# Altium footprint library BOURNS_FWxxA.PcbLib: 1 footprints
Each footprint in its own frame and in the unit in brackets; x right, y up, seen from the top. Pads: shape width x height; smd on the part's side, far side on the other; paste and mask are expansions set on the pad; w line width, h text height; cw(c..) or ccw(c..) is an arc to the next point about the centre after c.
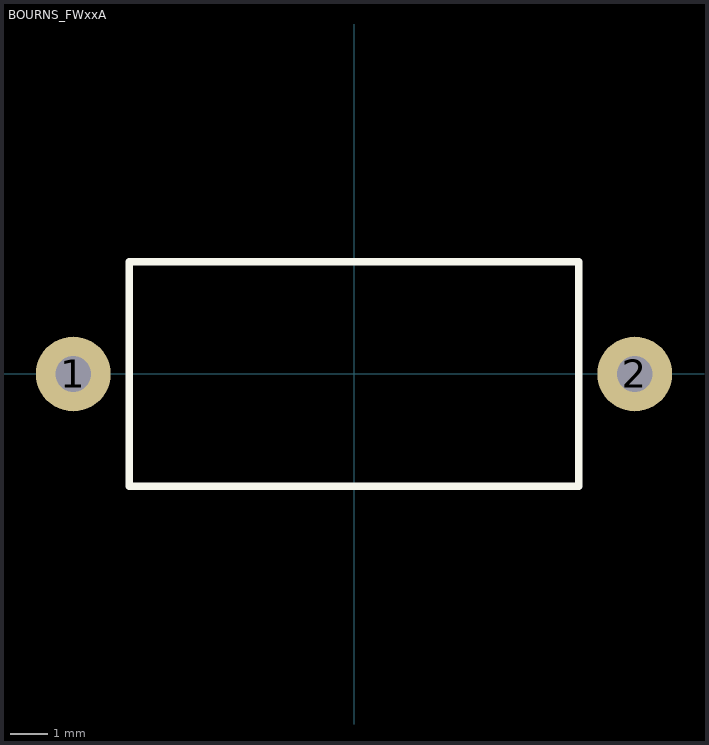
[diagram p0: the footprint, top view; thin cyan lines are the x and y axes]

## BOURNS_FWxxA [mm]
pads (2):
  round 2 hole 0.95: 1(-7.5,0) 2(7.5,0)
Top Overlay:
  lines w0.2: -6,-3 -6,3 6,3 6,-3 -6,-3
3D body "BOURNS_FWxxA.SLDPRT": height 6.05, standoff -1.95, extent -7.824,-3 7.825,3